# EAGLE library part MOS_N_SOIC8 (library Gob)
MOSFET SOIC8 z.B. IRF7413N (30V/15A) Distrelec 61.18.68
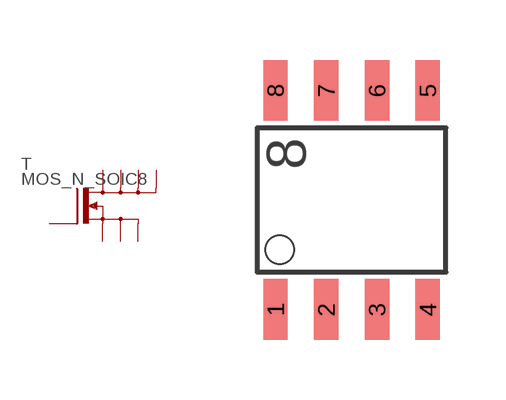
[diagram p2: symbol with the pads of SO-8; footprint SO-8]

Designator prefix T

## MOS_N_SOIC8  [SO-8]
1  S1  pas
2  S2
3  S3
4  G  pas
5  D1  pas
6  D2
7  D3
8  D4

## Footprint SO-8 (pad centres in mm)
smd 0.61 x 1.524: 1 -2.54,-2.743; 2 -1.27,-2.743; 3 0,-2.743; 4 1.27,-2.743; 5 1.27,2.743; 6 0,2.743; 7 -1.27,2.743; 8 -2.54,2.743